# EAGLE library part 6-PIN_RELAY (library 6-pin_relay)
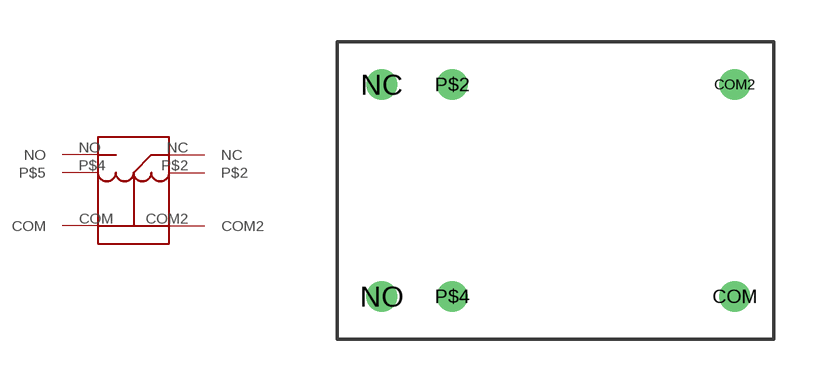
[diagram p0: symbol with the pads of 6-PIN_RELAY; footprint 6-PIN_RELAY]

Designator prefix RELAY

## 6-PIN_RELAY  [6-PIN_RELAY]
COM  COM
COM2  COM2
NC  NC
NO  NO
P$2  P$2
P$4  P$5

## Footprint 6-PIN_RELAY (pad centres in mm)
drill 0.6: COM 14.3,-9.16; COM2 14.3,-1.54; NC 1.6,-1.54; NO 1.6,-9.16; P$2 4.14,-1.54; P$4 4.14,-9.16